# EAGLE library part P-05285_ATM0430D5 (library Akizuki)
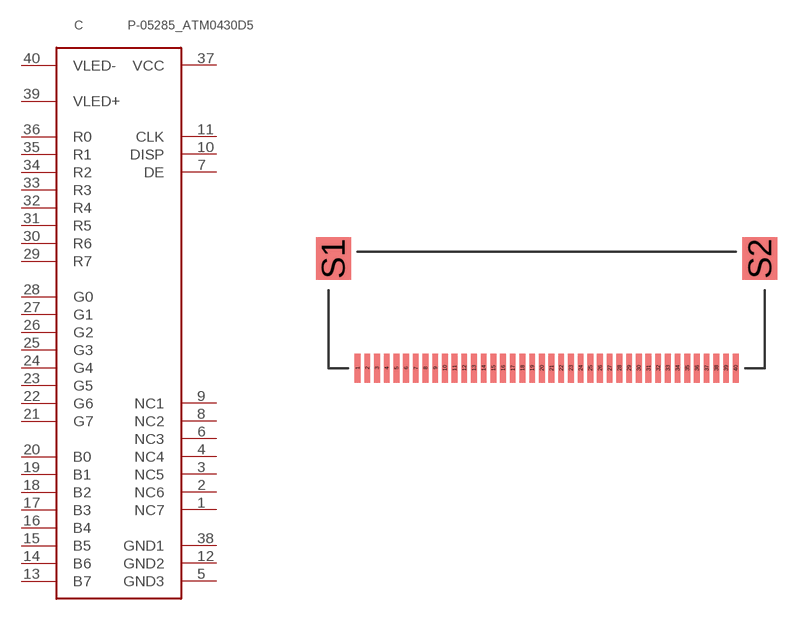
[diagram p18: symbol with the pads of FH-40S-0.5SH_0.5; footprint FH-40S-0.5SH_0.5]

Designator prefix C

## P-05285_ATM0430D5  [FH-40S-0.5SH_0.5]
1  NC7
2  NC6
3  NC5
4  NC4
5  GND3
6  NC3
7  DE
8  NC2
9  NC1
10  DISP
11  CLK
12  GND2
13  B7
14  B6
15  B5
16  B4
17  B3
18  B2
19  B1
20  B0
21  G7
22  G6
23  G5
24  G4
25  G3
26  G2
27  G1
28  G0
29  R7
30  R6
31  R5
32  R4
33  R3
34  R2
35  R1
36  R0
37  VCC
38  GND1
39  VLED+
40  VLED-

## Footprint FH-40S-0.5SH_0.5 (pad centres in mm)
smd 0.3 x 1.5: 1 0,0; 2 0.5,0; 3 1,0; 4 1.5,0; 5 2,0; 6 2.5,0; 7 3,0; 8 3.5,0; 9 4,0; 10 4.5,0; 11 5,0; 12 5.5,0; 13 6,0; 14 6.5,0; 15 7,0; 16 7.5,0; 17 8,0; 18 8.5,0; 19 9,0; 20 9.5,0; 21 10,0; 22 10.5,0; 23 11,0; 24 11.5,0; 25 12,0; 26 12.5,0; 27 13,0; 28 13.5,0; 29 14,0; 30 14.5,0; 31 15,0; 32 15.5,0; 33 16,0; 34 16.5,0; 35 17,0; 36 17.5,0; 37 18,0; 38 18.5,0; 39 19,0; 40 19.5,0
smd 1.8 x 2.2: S1 -1.25,5.65; S2 20.75,5.65